# Altium integrated library MSXV_PCS_Rev_1.2.IntLib: 47 symbols
Pins are listed as number, name and electrical type; pins without a type are passive.

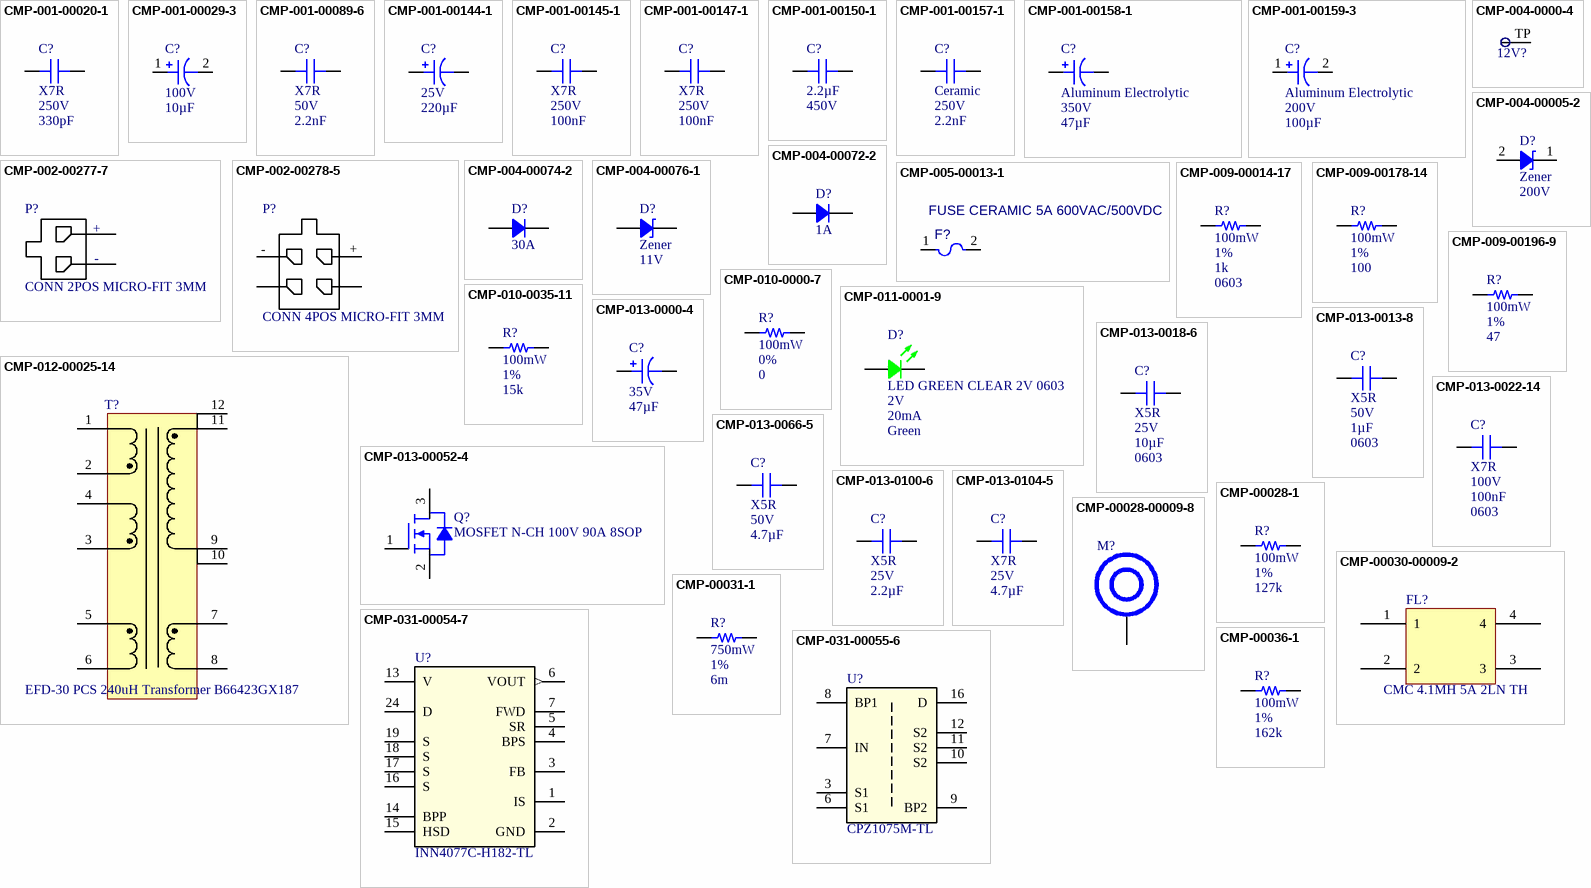
[diagram p0: symbols CMP-001-00020-1 to CMP-00036-1]

## CMP-001-00020-1
designator C?, comment Dielectric Code: X7R  Voltage Rating: 250V  Capacitance: 330pF  (hidden comment: CAP CER 330PF 250V X7R 0603)
330 pF ±10% 250V Ceramic Capacitor X7R 0603 (1608 Metric); Manufacturer: Murata; Manufacturer Part Number: GRM188R72E331KW07D; Tolerance: 10%; Case/Package: 0603; Component Type: Capacitors
footprint CAP 0603_1608 (Chip Capacitor, 2-Leads, Body 1.60x0.80mm, IPC Medium Density)
pins: 1, 2

## CMP-001-00029-3
designator C?, comment Voltage Rating: 100V  Capacitance: 10µF  (hidden comment: CAP ALUM 10UF 20% 100V RADIAL TH)
10 µF 100 V Aluminum Electrolytic Capacitors Radial, Can 2000 Hrs @ 85°C; Manufacturer: Panasonic; Manufacturer Part Number: ECA-2AM100; Tolerance: 20%; Case/Package: Radial; Component Type: Polarised Capacitors
footprint FP-RAD-TH-D_5_0_5-L_11_1-MFG
pins: 1, 2

## CMP-001-00089-6
designator C?, comment Dielectric Code: X7R  Voltage Rating: 50V  Capacitance: 2.2nF  (hidden comment: CAP CER 2.2NF 50V 10% X7R 0603)
±10% 50V Ceramic Capacitor X7R 0603 (1608 Metric); Manufacturer: KEMET; Manufacturer Part Number: C0603C222K5RAC7411; Case/Package: 0603; Tolerance: 10%; Component Type: Capacitors
footprint CAP 0603_1608 (Chip Capacitor, 2-Leads, Body 1.60x0.80mm, IPC Medium Density)
pins: 1, 2

## CMP-001-00144-1
designator C?, comment Voltage Rating: 25V  Capacitance: 220µF  (hidden comment: CAP ALUM 220UF 20% 25V RADIAL)
220 µF 25 V Aluminum Electrolytic Capacitors Radial, Can 2000 Hrs @ 85°C; Tolerance: 20%; Case/Package: SMT; Component Type: Capacitors
footprint CAP ALUM 220UF 20% 25V RADIAL-Footprint-1
pins: 1, 2

## CMP-001-00145-1
designator C?, comment Dielectric Code: X7R  Voltage Rating: 250V  Capacitance: 100nF  (hidden comment: CAP CER 0.1UF 250V X7R 0805)
Ceramic Capacitor, Multilayer, Ceramic, 250V, 10% +Tol, 10% -Tol, X7R, 15% TC, 0.1uF, Surface Mount, 0805; Manufacturer: Yageo; Manufacturer Part Number: CC0805KKX7RYBB104; Case/Package: 0805; Tolerance: 10%; Component Type: Capacitors
footprint FER 0805_2012 (Chip Ferrite, 2-Leads, Body 2.00x1.20mm, IPC Medium Density)
pins: 1, 2

## CMP-001-00147-1
designator C?, comment Dielectric Code: X7R  Voltage Rating: 250V  Capacitance: 100nF  (hidden comment: CAP CER 0.1UF 250V X7R 1206)
0.1 µF ±10% 250V Ceramic Capacitor X7R 1206 (3216 Metric); Manufacturer: Samsung; Manufacturer Part Number: CL31B104KEHSFNE; Tolerance: 10%; Case/Package: 1206; Component Type: Capacitors
footprint CAP 1206_3216 (Chip Capacitor, 2-Leads, Body 3.25x1.60mm, IPC Medium Density)
pins: 1, 2

## CMP-001-00150-1
designator C?, comment Capacitance: 2.2µF  Voltage Rating: 450V  (hidden comment: CAP FILM 2.2UF 5% 450VDC RADIAL)
2.2 µF Film Capacitor 450V Polypropylene (PP), Metallized Radial; Manufacturer: Panasonic; Manufacturer Part Number: ECW-F2W225JA; Case/Package: 7450; Tolerance: 5%; Component Type: Capacitors
footprint CAP FILM 2.2UF 5% 450VDC RADIAL-Footprint-1
pins: 1, 2

## CMP-001-00157-1
designator C?, comment Dielectric Code: Ceramic  Voltage Rating: 250V  Capacitance: 2.2nF  (hidden comment: CAP CER 2200PF 250V RADIAL)
2200 pF ±20% 250VAC Ceramic Capacitor E Radial, Disc; Manufacturer: Murata; Manufacturer Part Number: DE1E3RA222MN4AN01F; Tolerance: 20%; Case/Package: Radial; Component Type: Capacitors
footprint FP-DE1_D9_T4_F10_d0_6-0_0-MFG
pins: 1, 2

## CMP-001-00158-1
designator C?, comment Dielectric Code: Aluminum Electrolytic  Voltage Rating: 350V  Capacitance: 47µF  (hidden comment: CAP ALUM 47UF 20% 350V RADIAL TH)
47 µF 350 V Aluminum Electrolytic Capacitors Radial, Can 2000 Hrs @ 105°C; Manufacturer: Panasonic; Manufacturer Part Number: ECA-2VHG470B; Case/Package: Radial; Tolerance: 20%; Component Type: Capacitors
footprint Radial e7.5mm h27
pins: 1, 2

## CMP-001-00159-3
designator C?, comment Dielectric Code: Aluminum Electrolytic  Voltage Rating: 200V  Capacitance: 100µF  (hidden comment: CAP ALUM 100UF 20% 200V RADIAL)
100 µF 200 V Aluminum Electrolytic Capacitors Radial, Can 2000 Hrs @ 105°C; Manufacturer: KEMET; Manufacturer Part Number: ESH107M200AM7AA; Case/Package: Radial; Tolerance: 20%; Component Type: Capacitors
footprint Radial e7.5mm h27
pins: 1, 2

## CMP-002-00277-7
designator P?, comment CONN 2POS MICRO-FIT 3MM
Connector Header Through Hole 2 position 0.118" (3.00mm); Manufacturer: Molex; Manufacturer Part Number: 43650-0227; Connector Type: Power,Rectangular; Max Operating Temperature: 105°C; Min Operating Temperature: -40°C; RoHS Compliant: Yes; Component Type: Connectors
footprint 2POS Molex Microfit 3mm Vert
pins: 1 VCC, 2 GND
text: +; -

## CMP-002-00278-5
designator P?, comment CONN 4POS MICRO-FIT 3MM
Rectangular Power Connector, 4 Contact(s), Male, Solder Terminal, Plug; Manufacturer: Molex; Manufacturer Part Number: 43045-0412; Connector Type: Power,Rectangular; Contact Resistance: 10mR; Max Operating Temperature: 105°C; Min Operating Temperature: -40°C; Contact Gender: Male; RoHS Compliant: Yes; Case/Package: Molex Microfit Receptacle; Component Type: Connectors
footprint CONN 4POS MICROFIT (2x2)
pins: 1, 2, 3 +, 4 -

## CMP-004-0000-4
designator 12V?, comment Test Point SMD  (value not drawn)  (no BOM)
1.27mm x 1.27mm SMD Square; Component Type: Miscellaneous
footprint Test Point
pins: TP 1

## CMP-004-00005-2
designator D?, comment Type: Zener  Reverse Blocking Voltage: 200V  (hidden comment: DIODE ZENER 200V 800MW DO219AB)
Zener Diode 200 V 800 mW Surface Mount DO-219AB (SMF); Manufacturer: Vishay Semiconductors; Manufacturer Part Number: BZD27B200P-E3-08; Case/Package: DO-219AB; Breakdown Voltage: 200V; Component Type: Diodes
footprint DIODE ZENER 200V 800MW DO219AB-Footprint-1
pins: 1, 2

## CMP-004-00072-2
designator D?, comment Forward Current: 1A  (hidden comment: ULTRA FAST RECOVERY RECTIFIERS 2)
Diode 200 V 1A Surface Mount SMA/DO-214AC; Manufacturer: Anbon; Manufacturer Part Number: US1D-A; Reverse Blocking Voltage: 200V; Forward Voltage: 1V; Case/Package: DO-214AC-SMA; Component Type: Diodes
footprint DO 214AC SMA (Molded Diode, 2-Leads, Body 4.30x2.60mm, IPC Medium Density)
pins: 1, 2

## CMP-004-00074-2
designator D?, comment Forward Current: 30A  (hidden comment: DIODE SCHOTTKY 170V 30A PWRFLAT)
Diode 170 V 30A Surface Mount PowerFlat™ (5x6); Manufacturer: STMicroelectronics; Manufacturer Part Number: STPS30170DJF-TR; Number of Phases: 1; Qualification Status: Not Qualified; Forward Voltage: 700mV; Application(s): FAST RECOVERY POWER; Diode Element Material: SILICON; Package Body Material: Plastic; Case Connection: CATHODE; Additional Feature: FREE WHEELING DIODE; Diode Type: RECTIFIER; Non-rep Pk Forward Current-Max: 200A; Reverse Blocking Voltage: 170V; Case/Package: 8-PowerVDFN; Surface Mount: Yes; Max Operating Temperature: 175°C; Terminal Form: No Lead; Moisture Sensitivity Level: 1; Package Shape: Rectangular; Rep Pk Reverse Voltage-Max: 170V; Pins: 3; Number of Elements: 1; Max Output current: 30A; Reach SVHC Compliant: No; RoHS Compliant: Yes; Package Style: SMALL OUTLINEMeter; JESD-609 Code: e3; Technology: SCHOTTKY; Terminal Finish: Tin; Peak Reflow Temperature (Cel): 260°C; Terminal Position: DUAL; Component Type: Diodes
footprint New footprint 1
pins: 1 A, 2 K

## CMP-004-00076-1
designator D?, comment Type: Zener  Reverse Blocking Voltage: 11V  (hidden comment: DIODE, ZENER, 0.20W, 11.0V, 2%,)
Zener Diode 11 V 200 mW ±2% Surface Mount SOD-323; Case/Package: SOD 323; Breakdown Voltage: 11V; Component Type: Diodes
footprint SOD 323 (SOD, 2-Leads, Body 1.25x2.50mm, IPC Medium Density)
pins: 1, 2

## CMP-005-00013-1
designator F?, comment FUSE CERAMIC 5A 600VAC/500VDC
FUSE CERAMIC 5A 600VAC/500VDC FOOTPRINT IS FOR 5x20mm HOLDER; Manufacturer: Bel; Manufacturer Part Number: 0ADKC5000-BE; Fuse Type: Cartridge, Ceramic; Approvals: cURus; Voltage Rating (DC): 500V; Voltage Rating (AC): 600V; Mount: Holder; Current Rating: 5A; Min Operating Temperature: -55°C; Max Operating Temperature: 125°C; Packaging: Bulk; Component Type: Fuses
footprint 0ADKC5000-BE-Footprint-1
pins: 1, 2

## CMP-009-00014-17
designator R?, comment Power Rating: 100mW  Tolerance: 1%  Resistance: 1k  Case/Package: 0603  (hidden comment: RES 1K OHM 1% 1/10W 0603)
1 kOhms ±1% 0.1W, 1/10W Chip Resistor 0603 (1608 Metric) Moisture Resistant Thick Film; Manufacturer: Stackpole Electronics; Manufacturer Part Number: RMCF0603FT1K00; Temperature Coefficient: 100ppm/°C; Voltage Rating: 75V; Component Type: Resistors
footprint RES 0603_1608 (Chip Resistor, 2-Leads, Body 1.60x0.80mm, IPC Medium Density)
pins: 1, 2

## CMP-009-00178-14
designator R?, comment Power Rating: 100mW  Tolerance: 1%  Resistance: 100  (hidden comment: RES 100 OHM 1% 1/10W 0603)
100 Ohms ±1% 0.1W, 1/10W Chip Resistor 0603 (1608 Metric) Moisture Resistant Thick Film; Manufacturer: Yageo; Manufacturer Part Number: RC0603FR-07100RL; Temperature Coefficient: 100ppm/°C; Voltage Rating: 75V; Case/Package: 0603; Component Type: Resistors
footprint RES 0603_1608 (Chip Resistor, 2-Leads, Body 1.60x0.80mm, IPC Medium Density)
pins: 1, 2

## CMP-009-00196-9
designator R?, comment Power Rating: 100mW  Tolerance: 1%  Resistance: 47  (hidden comment: RES 47 OHM 1% 1/10W 0603)
Fixed Resistor, Metal Glaze/thick Film, 0.1W, 47ohm, 75V, 1% +/-Tol, 100ppm/Cel, Surface Mount, 0603; Manufacturer: Stackpole Electronics; Manufacturer Part Number: RMCF0603FT47R0; Temperature Coefficient: 100ppm/°C; Case/Package: 0603; Voltage Rating: 75V; Component Type: Resistors
footprint RES 0603_1608 (Chip Resistor, 2-Leads, Body 1.60x0.80mm, IPC Medium Density)
pins: 1, 2

## CMP-010-0000-7
designator R?, comment Power Rating: 100mW  Tolerance: 0%  Resistance: 0  (hidden comment: RES 0 OHM JUMPER 1/10W 0603)
Fixed Resistor, Metal Glaze/thick Film, 0.1W, 0ohm, Surface Mount, 0603; Manufacturer: Stackpole Electronics; Manufacturer Part Number: RMCF0603ZT0R00; Voltage Rating: 75V; Temperature Coefficient: 0ppm/°C; Case/Package: 0603; Component Type: Resistors
footprint RES 0603_1608 (Chip Resistor, 2-Leads, Body 1.60x0.80mm, IPC Medium Density)
pins: 1, 2

## CMP-010-0035-11
designator R?, comment Power Rating: 100mW  Tolerance: 1%  Resistance: 15k  (hidden comment: RES 15K OHM 1% 1/10W 0603)
15 kOhms ±1% 0.1W, 1/10W Chip Resistor 0603 (1608 Metric) Moisture Resistant Thick Film; Manufacturer: Yageo; Manufacturer Part Number: RC0603FR-0715KL; Temperature Coefficient: 100ppm/°C; Voltage Rating: 75V; Case/Package: 0603; Component Type: Resistors
footprint RES 0603_1608 (Chip Resistor, 2-Leads, Body 1.60x0.80mm, IPC Medium Density)
pins: 1, 2

## CMP-011-0001-9
designator D?, comment LED GREEN CLEAR 2V 0603  Forward Voltage: 2V  Forward Current: 20mA  Colour: Green
Green 562nm LED Indication - Discrete 2V 0603 (1608 Metric); Manufacturer: Inolux; Manufacturer Part Number: B1911PG--20D000514U1930; Case/Package: 0603 (1608 Metric); Component Type: LED
footprint LED 0603_1608 (Chip Diode, 2-Leads, Body 1.60x0.80mm, IPC Medium Density)
pins: 1, 2

## CMP-012-00025-14
designator T?, comment EFD-30 PCS 240uH Transformer B66423GX187
EFD30/15/9-N87; Manufacturer: TDK EPCOS; Manufacturer Part Number: B66424W1012D1; Component Type: Transformers
footprint EFD-30 PCS 240uH Transformer B66423GX187-Footprint-1
pins: 1 Pri+, 2 Pri+, 3 Pri-, 4 Pri-, 5 Bias1+, 6 Bias1-, 7 Bias2+, 8 Bias2-, 9 Sec-, 10 Sec-, 11 Sec+, 12 Sec+

## CMP-013-0000-4
designator C?, comment Voltage Rating: 35V  Capacitance: 47µF  (hidden comment: CAP ALUM 47UF 20% 35V SMD)
47µF 35V Aluminum Electrolytic Capacitors Radial, Can - SMD 1000 Hrs @ 85°C; Manufacturer: Panasonic; Manufacturer Part Number: EEE-1VA470WP; Case/Package: Radial; Tolerance: 20%; Component Type: Capacitors
footprint CAP ALUM 6.3MM RADIAL SMD (Aluminum Electrolytic Capacitor, Body 6.50x6.50x5.50mm, IPC Low Density)
pins: 1, 2

## CMP-013-0013-8
designator C?, comment Dielectric Code: X5R  Voltage Rating: 50V  Capacitance: 1µF  Case/Package: 0603  (hidden comment: CAP CER 1UF 50V X5R 0603)
1µF ±10% 50V Ceramic Capacitor X7R 0603 (1608 Metric); Manufacturer: Murata; Manufacturer Part Number: GRT188R61H105KE13D; Tolerance: 10%; Component Type: Capacitors
footprint CAP 0603_1608 (Chip Capacitor, 2-Leads, Body 1.60x0.80mm, IPC Medium Density)
pins: 1, 2

## CMP-013-0018-6
designator C?, comment Dielectric Code: X5R  Voltage Rating: 25V  Capacitance: 10µF  Case/Package: 0603  (hidden comment: CAP CER 10UF 25V 20% X5R 0603)
10µF ±20% 25V Ceramic Capacitor X5R 0603 (1608 Metric); Manufacturer: Murata; Manufacturer Part Number: GRM188R61E106MA73D; Tolerance: 20%; Component Type: Capacitors
footprint CAP 0603_1608 (Chip Capacitor, 2-Leads, Body 1.60x0.80mm, IPC Medium Density)
pins: 1, 2

## CMP-013-0022-14
designator C?, comment Dielectric Code: X7R  Voltage Rating: 100V  Capacitance: 100nF  Case/Package: 0603  (hidden comment: CAP CER 0.1UF 100V 10% X7R 0603)
Ceramic Capacitor, Multilayer, Ceramic, 100V, 10% +Tol, 10% -Tol, X7R, 15% TC, 0.1uF, Surface Mount, 0603; Manufacturer: Samsung; Manufacturer Part Number: CL10B104KC8NNNC; Tolerance: 10%; Component Type: Capacitors
footprint CAP 0603_1608 (Chip Capacitor, 2-Leads, Body 1.60x0.80mm, IPC Medium Density)
pins: 1, 2

## CMP-013-00052-4
designator Q?, comment MOSFET N-CH 100V 90A 8SOP
N-Channel 100 V 90A (Tc) 960mW (Ta), 170W (Tc) Surface Mount 8-SOP Advance (5x5); Manufacturer: Toshiba; Manufacturer Part Number: TPH3R70APL,L1Q; Vgs (Max): 20V; Vgs(th) (Max) @ Id: 2.5V @ 1mA; Power: 170W; Drain to Source Voltage (Vdss): 100V; Case/Package: 8-SOP Advance (5x5); Component Type: Transistors
footprint TPH3R70APL,L1Q
pins: 1 G, 2 S, 3 D

## CMP-013-0066-5
designator C?, comment Dielectric Code: X5R  Voltage Rating: 50V  Capacitance: 4.7µF  (hidden comment: CAP CER 4.7UF 50V 10% X5R 0805)
4.7µF ±20% 50V Ceramic Capacitor X5R 0805 (2012 Metric); Manufacturer: Murata; Manufacturer Part Number: GRT21BR61H475ME13L; Tolerance: 20%; Case/Package: 0805; Component Type: Capacitors
footprint CAP 0805_2012 (Chip Capacitor, 2-Leads, Body 2.00x1.20mm, IPC Medium Density)
pins: 1, 2

## CMP-013-0100-6
designator C?, comment Dielectric Code: X5R  Voltage Rating: 25V  Capacitance: 2.2µF  (hidden comment: CAP CER 2.2UF 25V 10% X5R 0603)
2.2µF ±10% 25V Ceramic Capacitor X5R 0603 (1608 Metric); Manufacturer: Murata; Manufacturer Part Number: GRM188R61E225KA12D; Tolerance: 10%; Case/Package: 0603; Component Type: Capacitors
footprint CAP 0603_1608 (Chip Capacitor, 2-Leads, Body 1.60x0.80mm, IPC Medium Density)
pins: 1, 2

## CMP-013-0104-5
designator C?, comment Dielectric Code: X7R  Voltage Rating: 25V  Capacitance: 4.7µF  (hidden comment: CAP CER 4.7UF 25V 10% X5R 0603)
4.7µF ±10% 25V Ceramic Capacitor X5R 0603 (1608 Metric); Manufacturer: Murata; Manufacturer Part Number: GRM188R61E475KE11D; Case/Package: 0603; Tolerance: 10%; Component Type: Capacitors
footprint CAP 0603_1608 (Chip Capacitor, 2-Leads, Body 1.60x0.80mm, IPC Medium Density)
pins: 1, 2

## CMP-00028-1
designator R?, comment Power Rating: 100mW  Tolerance: 1%  Resistance: 127k  (hidden comment: RES 127K OHM 1% 1/10W 0603)
Fixed Resistor, Metal Glaze/thick Film, 0.1W, 127000ohm, 75V, 1% +/-Tol, 100ppm/Cel, Surface Mount, 0603; Manufacturer: Stackpole Electronics; Manufacturer Part Number: RMCF0603FT127K; Temperature Coefficient: 100ppm/°C; Voltage Rating: 75V; Case/Package: 0603; Component Type: Resistors
footprint RES 0603_1608 (Chip Resistor, 2-Leads, Body 1.60x0.80mm, IPC Medium Density)
pins: 1, 2

## CMP-00028-00009-8
designator M?, comment HEX STANDOFF M2.5X0.45 BRASS 5MM  (value not drawn)
Hex Standoff Threaded M2.5x0.45 Brass 0.197" (5.00mm); Manufacturer: Assmann; Manufacturer Part Number: V6622A; Component Type: Mechanical
footprint HEX STANDOFF M2.5X0.45 BRASS 5MM-Footprint-1
pins: 0

## CMP-00030-00009-2
designator FL?, comment CMC 4.1MH 5A 2LN TH
4.1 mH @ 10 kHz 2 Line Common Mode Choke Through Hole 5A DCR 35mOhm; Manufacturer: KEMET; Manufacturer Part Number: SSRH24NH-50041; Inductance @10KHz: 4.1mH; Case/Package: 4 Pin; Max Current: 5A; Component Type: Miscellaneous
footprint New footprint 1
pins: 1, 2, 3, 4

## CMP-00031-1
designator R?, comment Power Rating: 750mW  Tolerance: 1%  Resistance: 6m  (hidden comment: RES 0.006 OHM 1% 3/4W 0805)
Res 0805 50PPM 0.006 Ohm 1.0%; Manufacturer: Thin Film Tech; Manufacturer Part Number: D1WEL0805MR006F-T5; Temperature Coefficient: ±50ppm/°C; Voltage Rating: 100V; Case/Package: 0805; Component Type: Resistors
footprint RES 0805_2012 (Chip Resistor, 2-Leads, Body 2.00x1.25mm, IPC Medium Density)
pins: 1, 2

## CMP-031-00054-7
designator U?, comment INN4077C-H182-TL
ZVS Flyback Switcher/Controller IC InSOP-24D 135W; Manufacturer Part Number: INN4074C-H185; Manufacturer: Power Integrations; Min Supply Voltage: 264V; Max Supply Voltage: 85V; Case/Package: InSOP-24D; Manufacturer Part Number: INN4077C-H182-TL; Component Type: Integrated Circuits
footprint INN4074C-H185-Footprint-1
pins: 1 IS, 2 GND (power), 3 FB, 4 BPS, 5 SR, 6 VOUT (out), 7 FWD, 8 NC hidden, 9 NC hidden, 10 NC hidden, 11 NC hidden, 12 NC hidden, 13 V (power), 14 BPP, 15 HSD, 16 S, 17 S, 18 S, 19 S, 24 D

## CMP-031-00055-6
designator U?, comment CPZ1075M-TL
Converter Offline Flyback, Secondary Side SR Topology 102kHz MinSOP-16A; Manufacturer: Power Integrations; Min Supply Voltage: 265V; Max Supply Voltage: 85V; Manufacturer Part Number: CPZ1075M-TL; Case/Package: InSOP16; Component Type: Integrated Circuits
footprint CPZ1076M-Footprint-1
pins: 1 NC hidden, 2 NC hidden, 3 S1, 4 NC hidden, 5 NC hidden, 6 S1, 7 IN, 8 BP1, 9 BP2, 10 S2, 11 S2, 12 S2, 16 D

## CMP-00036-1
designator R?, comment Power Rating: 100mW  Tolerance: 1%  Resistance: 162k  (hidden comment: RES 162K OHM 1% 1/10W 0603)
Fixed Resistor, Metal Glaze/thick Film, 0.1W, 162000ohm, 75V, 1% +/-Tol, 100ppm/Cel, Surface Mount, 0603; Manufacturer: Stackpole Electronics; Manufacturer Part Number: RMCF0603FT162K; Temperature Coefficient: 100ppm/°C; Case/Package: 0603; Voltage Rating: 75V; Component Type: Resistors
footprint RES 0603_1608 (Chip Resistor, 2-Leads, Body 1.60x0.80mm, IPC Medium Density)
pins: 1, 2

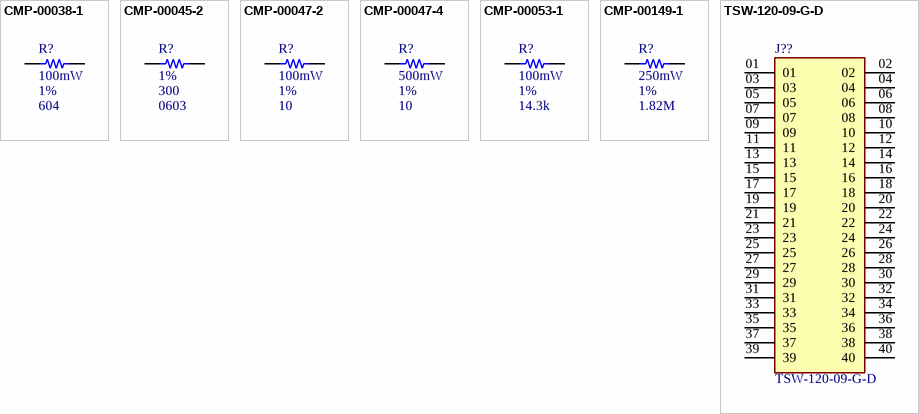
[diagram p1: symbols CMP-00038-1 to TSW-120-09-G-D]

## CMP-00038-1
designator R?, comment Power Rating: 100mW  Tolerance: 1%  Resistance: 604  (hidden comment: RES 604 OHM 1% 1/10W 0603)
Fixed Resistor, Metal Glaze/thick Film, 0.1W, 604ohm, 75V, 1% +/-Tol, 100ppm/Cel, Surface Mount, 0603; Manufacturer: Stackpole Electronics; Manufacturer Part Number: RMCF0603FT604R; Temperature Coefficient: 100ppm/°C; Case/Package: 0603; Voltage Rating: 75V; Component Type: Resistors
footprint RES 0603_1608 (Chip Resistor, 2-Leads, Body 1.60x0.80mm, IPC Medium Density)
pins: 1, 2

## CMP-00045-2
designator R?, comment Tolerance: 1%  Resistance: 300  Case/Package: 0603  (hidden comment: RES 300 OHM 1% 1/10W 0603)
300 Ohms ±1% 0.1W, 1/10W Chip Resistor 0603 (1608 Metric) Automotive AEC-Q200 Thick Film; Power Rating: 100mW; Voltage Rating: 75V; Temperature Coefficient: 100ppm/°C; Component Type: Resistors
footprint RES 0603_1608 (Chip Resistor, 2-Leads, Body 1.60x0.80mm, IPC Medium Density)
pins: 1, 2

## CMP-00047-2
designator R?, comment Power Rating: 100mW  Tolerance: 1%  Resistance: 10  (hidden comment: RES 10 OHM 1% 1/10W 0603)
Fixed Resistor, Metal Glaze/thick Film, 0.1W, 10ohm, 75V, 1% +/-Tol, 100ppm/Cel, Surface Mount, 0603; Manufacturer: Stackpole Electronics; Manufacturer Part Number: RMCF0603FT10R0; Temperature Coefficient: 100ppm/°C; Voltage Rating: 75V; Case/Package: 0603; Component Type: Resistors
footprint RES 0603_1608 (Chip Resistor, 2-Leads, Body 1.60x0.80mm, IPC Medium Density)
pins: 1, 2

## CMP-00047-4
designator R?, comment Power Rating: 500mW  Tolerance: 1%  Resistance: 10  (hidden comment: RES 10 OHM 1% 1/2W 0805)
10 Ohms ±1% 0.5W, 1/2W Chip Resistor 0805 (2012 Metric) Automotive AEC-Q200, Pulse Withstanding Thick Film; Manufacturer: KOA Speer; Manufacturer Part Number: SG73P2ATTD10R0F; Temperature Coefficient: 200ppm/°C; Voltage Rating: 400V; Case/Package: 0805; Component Type: Resistors
footprint CAP 0805_2012 (Chip Capacitor, 2-Leads, Body 2.00x1.20mm, IPC Medium Density)
pins: 1, 2

## CMP-00053-1
designator R?, comment Power Rating: 100mW  Tolerance: 1%  Resistance: 14.3k  (hidden comment: RES 14.3K OHM 1% 1/10W 0603)
14.3 kOhms ±1% 0.1W, 1/10W Chip Resistor 0603 (1608 Metric) Automotive AEC-Q200 Thick Film; Manufacturer: Stackpole Electronics; Manufacturer Part Number: RMCF0603FT14K3; Voltage Rating: 200V; Temperature Coefficient: 100; Case/Package: 0603; Component Type: Resistors
footprint RES 0603_1608 (Chip Resistor, 2-Leads, Body 1.60x0.80mm, IPC Medium Density)
pins: 1, 2

## CMP-00149-1
designator R?, comment Power Rating: 250mW  Tolerance: 1%  Resistance: 1.82M  (hidden comment: RES 1.82M OHM 1% 1/4W 1206)
1.82 MOhms ±1% 0.25W, 1/4W Chip Resistor 1206 (3216 Metric) Automotive AEC-Q200 Thick Film; Manufacturer: Stackpole Electronics; Manufacturer Part Number: RMCF1206FG1M82; Voltage Rating: 674V; Temperature Coefficient: 200; Case/Package: 1206; Component Type: Resistors
footprint RES 1206_3216 (Chip Resistor, 2-Leads, Body 3.13x1.55mm, IPC Medium Density)
pins: 1, 2

## TSW-120-09-G-D
designator J??
Package: None; Price: None; Value: *; MP: TSW-120-09-G-D; Availability: Unavailable
footprint SAMTEC_TSW-120-09-G-D
pins: 01, 02, 03, 04, 05, 06, 07, 08, 09, 10, 11, 12, 13, 14, 15, 16, 17, 18, 19, 20, 21, 22, 23, 24, 25, 26, 27, 28, 29, 30, 31, 32, 33, 34, 35, 36, 37, 38, 39, 40